# Altium footprint library Library.PcbLib: 36 footprints (part 1 of 3)
Each footprint in its own frame and in the unit in brackets; x right, y up, seen from the top. Pads: shape width x height; smd on the part's side, far side on the other; paste and mask are expansions set on the pad; w line width, h text height; cw(c..) or ccw(c..) is an arc to the next point about the centre after c.
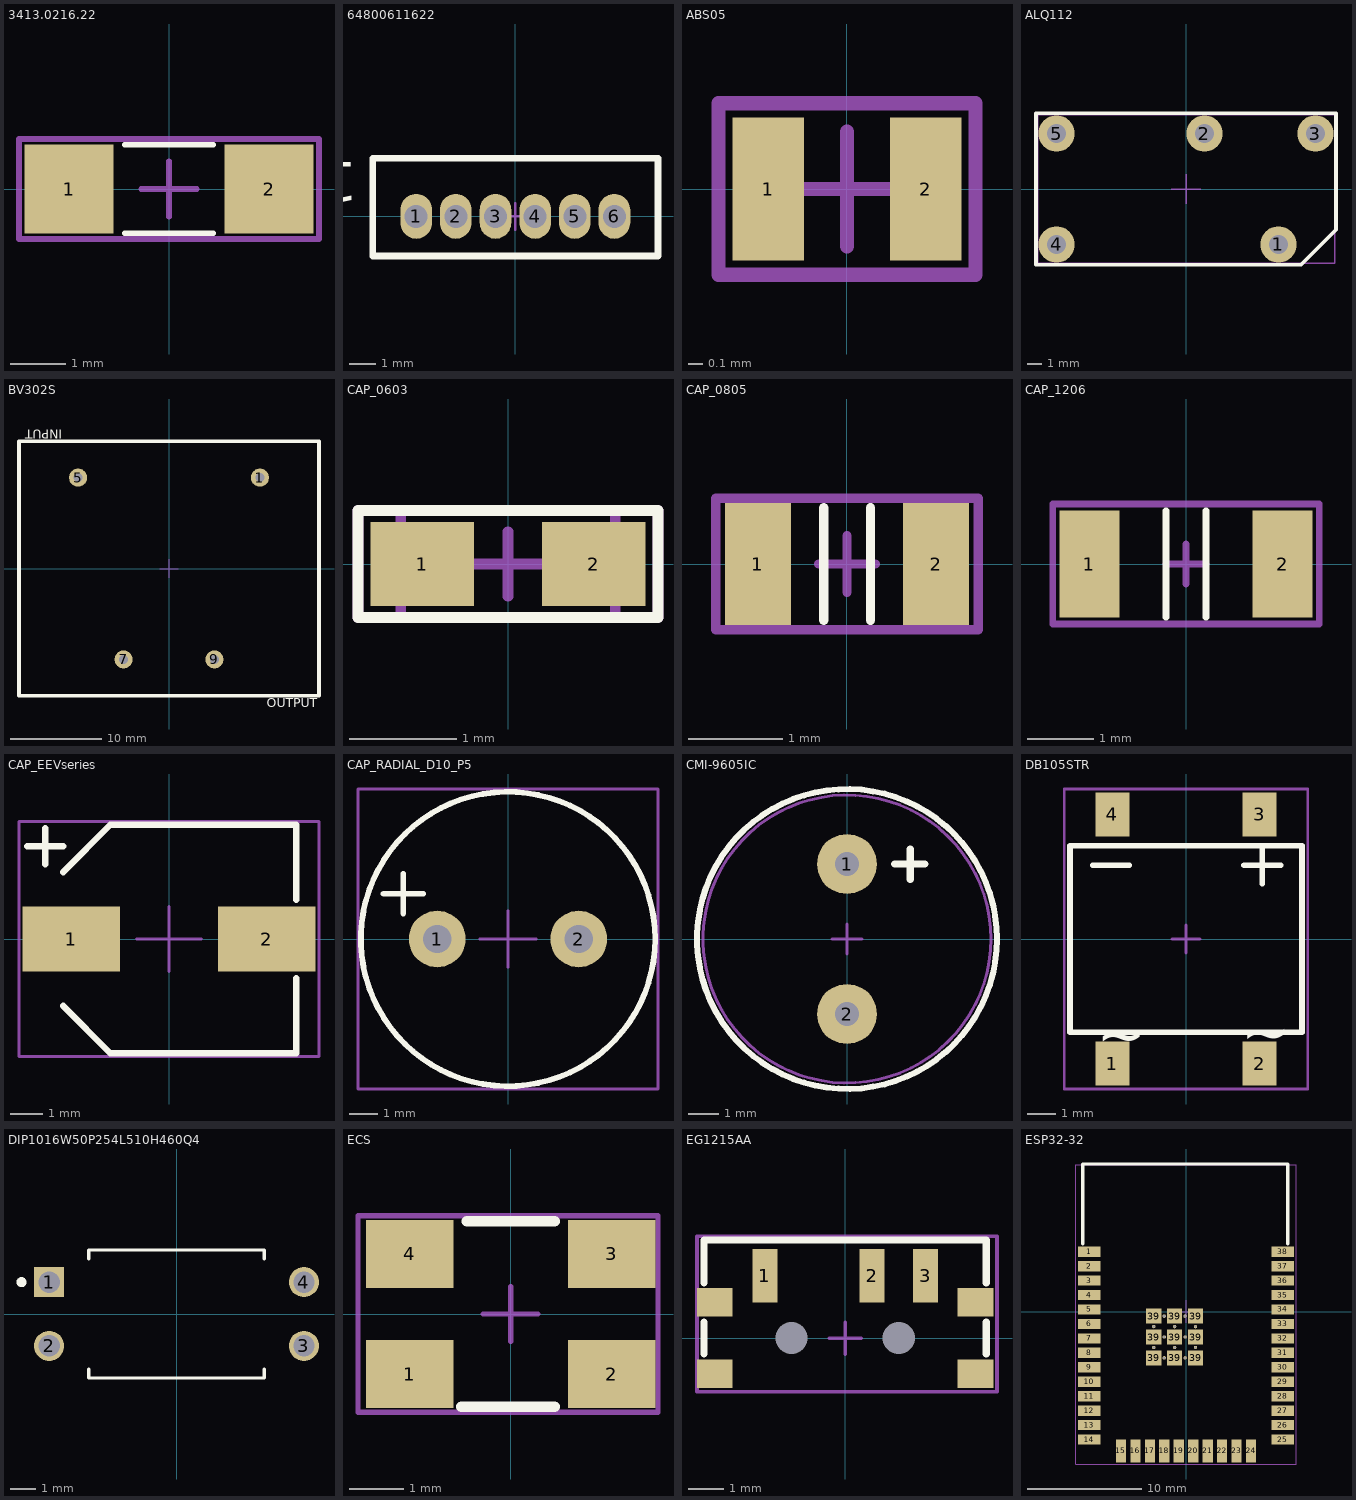
[diagram p0: the footprints below, top view; thin cyan lines are the x and y axes]

## 3413.0216.22 [mm]
pads (2):
  rect 1.6x1.6 smd mask+0.05: 1(-1.8,0) 2(1.8,0)
Top Overlay:
  lines w0.1: -0.8,-0.8 0.8,-0.8 ; -0.8,0.8 0.8,0.8
Top Component Center:
  lines w0.1: -0.5,0 0.5,0 ; 0,-0.5 0,0.5 ; -2.7,-0.9 2.7,-0.9 2.7,0.9 -1.3,0.9 -2.7,0.9 -2.7,-0.9
Top Designator:
  lines w0.1: -2.7,-0.9 2.7,-0.9 2.7,0.9 -1.3,0.9 -2.7,0.9 -2.7,-0.9
  text ".Designator" at -2,-0.467 h1
3D body "e_0100.3479_003.step": height 0.64, standoff 0, extent -1.612,-0.8 1.612,0.8

## 64800611622 [mm]
pads (6):
  oval 1.2x1.7 hole 0.87 mask+0.05: 1(-3.75,0) 2(-2.25,0) 3(-0.75,0) 4(0.75,0) 5(2.25,0) 6(3.75,0)
Top Overlay:
  lines w0.25: -5.4,-1.5 5.4,-1.5 5.4,2.2 -5.4,2.2 -5.4,-1.5
  text "1" at -5.954,2.046 h1.52
Top Component Center:
  lines w0.1: -0.5,0 0.5,0 ; 0,-0.5 0,0.5 ; -5.4,-1.5 -5.4,2.2 5.4,2.2 5.4,-1.5 -5.4,-1.5
Top Designator:
  lines w0.1: -5.4,-1.5 5.4,-1.5 5.4,2.2 -5.4,2.2 -5.4,-1.5
  text "'.Designator'" at -4.046,-0.238 h1.52
3D body "64800611622 (rev1).stp": height 4.75, standoff -2.45, extent -5.25,-1.4 5.25,2.1

## ABS05 [mm]
pads (2):
  rect 0.5x1 smd mask+0.05: 1(-0.55,0) 2(0.55,0)
Top Component Center:
  lines w0.1: -0.4,0 0.4,0 ; 0,-0.4 0,0.4 ; -0.9,-0.6 0.9,-0.6 0.9,0.6 -0.9,0.6 -0.9,-0.6
Top Designator:
  lines w0.1: -0.9,-0.6 0.9,-0.6 0.9,0.6 -0.9,0.6 -0.9,-0.6
  text "'.Designator'" at -1,-0.367 h0.7
3D body "ABS05.STEP": height 0.5, standoff 0, extent -0.8,-0.5 0.8,0.5

## ALQ112 [mm]
pads (5):
  round 2.5 hole 1.3 mask+0.05: 1(6.35,-3.81) 2(1.27,3.81) 3(8.89,3.81) 4(-8.89,-3.81) 5(-8.89,3.81)
Top Overlay:
  lines w0.25: -10.3,-5.2 -10.3,5.2 10.3,5.2 10.3,-2.8 7.9,-5.2 -10.3,-5.2
Top Component Center:
  lines w0.1: -1,0 1,0 ; 0,-1 0,1 ; -10.19,-5.09 -10.19,5.11 10.21,5.11 10.21,-5.09 -10.19,-5.09
Top Designator:
  lines w0.1: -10.19,-5.09 -10.19,5.11 10.21,5.11 10.21,-5.09 -10.19,-5.09
  text "'.Designator'" at -5.146,-0.138 h1.52
3D body: height 15.6, standoff 0.4, extent -10,-4.98 10,5.02
3D body: height 15.6, standoff 0.4, extent 8.01,-3.99 9.01,-2.99
3D body: height 0.2, standoff -4, extent 5.95,-3.96 6.75,-3.66
3D body: height 0.45, standoff -3.75, extent -9.288,3.411 -8.492,4.209
3D body: height 0.45, standoff -3.75, extent -9.288,-4.209 -8.492,-3.411
3D body: height 0.2, standoff -4, extent 8.49,3.66 9.29,3.96
3D body: height 0.2, standoff -4, extent 0.87,3.66 1.67,3.96

## BV302S [mm]
pads (4):
  round 2 hole 1 mask+0.05: 1(10,10) 5(-10,10) 7(-5,-10) 9(5,-10)
Top Overlay:
  lines w0.4: -16.5,-14 -16.5,14 16.5,14 16.5,-14 -16.5,-14
  text "OUTPUT" at 10.754,-15.246 h1
  text "INPUT" at -11.754,15.246 h1
Top Component Center:
  lines w0.1: -1,0 1,0 ; 0,-1 0,1 ; -16.5,-14 16.5,-14 16.5,14 -16.5,14 -16.5,-14
Top Designator:
  lines w0.1: -16.5,-14 -16.5,14 16.5,14 16.5,-14 -16.5,-14
  text "'.Designator'" at -7.246,-0.238 h1.52
3D body "User Library-Hahn BV EI 302 2902.step": height 21.8, standoff -4.5, extent -16.25,-13.75 16.25,13.75

## CAP_0603 [mil]
pads (2):
  rect 38x31 smd mask+1.97: 1(-31.5,0) 2(31.5,0)
Top Overlay:
  lines w3.94: -55.12,-19.68 55.12,-19.68 55.12,19.68 -55.12,19.68 -55.12,-19.68
Top 3D Body:
  lines w3.94: -39.37,-19.68 -39.37,19.68 39.37,19.68 39.37,-19.68 -39.37,-19.68
Top Component Center:
  lines w3.94: -11.81,0 11.81,0 ; 0,-11.81 0,11.81 ; -55.12,-19.68 55.12,-19.68 55.12,19.68 -55.12,19.68 -55.12,-19.68
Top Designator:
  lines w3.94: -55.12,-19.68 55.12,-19.68 55.12,19.68 -55.12,19.68 -55.12,-19.68
  text ".Designator" at -39.37,-9.19 h19.68
3D body "CAPC0603.STEP": height 31.5, standoff 0, extent -41.35,-22.21 41.36,18.29

## CAP_0805 [mm]
pads (2):
  rect 0.7x1.3 smd mask+0.05: 1(-0.95,0) 2(0.95,0)
Top Overlay:
  lines w0.1: -0.25,-0.6 -0.25,0.6 ; 0.25,-0.6 0.25,0.6
Top Component Center:
  lines w0.1: -0.3,0 0.3,0 ; 0,-0.3 0,0.3 ; -1.4,-0.7 1.4,-0.7 1.4,0.7 -1.4,0.7 -1.4,-0.7
Top Designator:
  lines w0.1: -1.4,-0.7 1.4,-0.7 1.4,0.7 -1.4,0.7 -1.4,-0.7
  text "'.Designator'" at -1.25,-0.317 h0.7
3D body "CAPC0805.STEP": height 0.9, standoff 0, extent -1.301,-0.678 1.301,0.678

## CAP_1206 [mm]
pads (2):
  rect 0.9x1.6 smd mask+0.05: 1(-1.45,0) 2(1.45,0)
Top Overlay:
  lines w0.1: -0.3,-0.8 -0.3,0.8 ; 0.3,-0.8 0.3,0.8
Top Component Center:
  lines w0.1: -0.3,0 0.3,0 ; 0,-0.3 0,0.3 ; -2,-0.9 2,-0.9 2,0.9 -2,0.9 -2,-0.9
Top Designator:
  lines w0.1: -2,-0.9 2,-0.9 2,0.9 -2,0.9 -2,-0.9
  text "'.Designator'" at -1.25,-0.317 h0.7
3D body "CAPC1206.STEP": height 1.3, standoff -0.01, extent -1.975,-0.976 1.975,0.976

## CAP_EEVseries [mm]
pads (2):
  rect 3x2 smd mask+0.05: 1(-3,0) 2(3,0)
Top Overlay:
  lines w0.2: -4.35,2.85 -3.25,2.85 ; -3.8,2.3 -3.8,3.4 ; -3.25,-2.05 -1.8,-3.5 -1.5,-3.5 3.9,-3.5 3.9,-1.2 ; -3.25,2.05 -1.8,3.5 -1.5,3.5 3.9,3.5 3.9,1.2
Top Component Center:
  lines w0.1: -1,0 1,0 ; 0,-1 0,1 ; -4.6,-3.6 -4.6,3.6 4.6,3.6 4.6,-3.6 -4.6,-3.6
Top Designator:
  lines w0.1: -4.6,-3.6 -4.6,3.6 4.6,3.6 4.6,-3.6 -4.6,-3.6
  text "'.Designator'" at -2.846,-0.638 h1.52
3D body "EEV686M035A9HAA (1).step": height 8.01, standoff 0, extent -3.8,-3.4 3.8,3.4

## CAP_RADIAL_D10_P5 [mm]
pads (2):
  round 2 hole 1 mask+0.05: 1(-2.5,0) 2(2.5,0)
Top Overlay:
  circle w0.2: c0,0 r5.2
  lines w0.2: -4.4,1.6 -3,1.6 ; -3.7,0.9 -3.7,2.3
Top Component Center:
  lines w0.1: -1,0 1,0 ; 0,-1 0,1 ; -5.3,-5.3 5.3,-5.3 5.3,5.3 -5.3,5.3 -5.3,-5.3
Top Designator:
  lines w0.1: -5.3,-5.3 -5.3,5.3 5.3,5.3 5.3,-5.3 -5.3,-5.3
  text "'.Designator'" at -3.446,-0.938 h1.52
3D body "ESH477M050AH4AA (2).step": height 22.2, standoff -19.8, extent -5.25,-5.25 5.25,5.25

## CMI-9605IC [mm]
pads (2):
  round 2 hole 0.8 mask+0.05: 1(0,2.5) 2(0,-2.5)
Top Overlay:
  circle w0.2: c0,0 r5
  lines w0.25: 1.6,2.5 2.6,2.5 ; 2.1,2 2.1,3
Top Component Center:
  circle w0.1: c0,0 r4.8
  lines w0.1: -0.5,0 0.5,0 ; 0,-0.5 0,0.5
Top Designator:
  circle w0.1: c0,0 r4.8
  text ".Designator" at -2.246,-0.438 h1.52
3D body: height 1.65, standoff -3.85, extent -0.3,-2.8 0.297,-2.201
3D body: height 0.15, standoff -5.35, extent -0.297,2.201 0.3,2.8
3D body: height 5.2, standoff 5.15, extent -2,1.8 2,5.8
3D body: height 5.1, standoff 0.1, extent -4.8,-4.797 4.8,4.797
3D body: height 5.2, standoff 5.15, extent -4.3,-4.297 4.3,4.297

## DB105STR [mm]
pads (4):
  rect 1.2x1.55 smd mask+0.05: 1(-2.605,-4.4) 2(2.605,-4.4) 3(2.605,4.4) 4(-2.605,4.4)
Top Overlay:
  lines w0.2: -3.3,2.6 -2,2.6 ; 2.05,2.6 3.35,2.6 ; 2.7,1.95 2.7,3.25 ; -4.1,-3.3 -4.1,3.3 4.1,3.3 4.1,-3.3 -4.1,-3.3
  text "~" at 1.954,-4.016 h1.52
  text "~" at -3.146,-4.116 h1.52
Top Component Center:
  lines w0.1: -0.5,0 0.5,0 ; 0,-0.5 0,0.5 ; -4.3,-5.3 -4.3,5.3 4.3,5.3 4.3,-5.3 -4.3,-5.3
Top Designator:
  lines w0.1: -4.3,-5.3 -4.3,5.3 4.3,5.3 4.3,-5.3 -4.3,-5.3
  text ".Designator" at -3,-0.067 h1
3D body "User Library-DB107S  DB-S (1).step": height 2.66, standoff 0, extent -4.16,-5.2 4.16,5.2

## DIP1016W50P254L510H460Q4 [mm]
pads (4):
  rect 1.2x1.2 hole 0.85: 1(-5.08,1.27)
  round 1.2 hole 0.85: 2(-5.08,-1.27) 3(5.08,-1.27) 4(5.08,1.27)
Top Overlay:
  circle w0.2: c-6.18,1.27 r0.1
  lines w0.127: -3.5,-2.2 -3.5,-2.55 3.5,-2.55 3.5,-2.2 ; -3.5,2.2 -3.5,2.55 3.5,2.55 3.5,2.2

## ECS [mm]
pads (4):
  rect 1.6x1.25 smd mask+0.05: 1(-1.85,-1.1) 2(1.85,-1.1) 3(1.85,1.1) 4(-1.85,1.1)
Top Overlay:
  lines w0.2: -0.9,-1.7 0.8,-1.7 ; -0.8,1.7 0.8,1.7
Top Component Center:
  lines w0.1: -0.5,0 0.5,0 ; 0,-0.5 0,0.5 ; -2.8,-1.8 2.7,-1.8 2.7,1.8 -2.8,1.8 -2.8,-1.8
Top Designator:
  lines w0.1: -2.8,-1.8 2.7,-1.8 2.7,1.8 -2.8,1.8 -2.8,-1.8
  text "'.Designator'" at -2.246,-0.638 h1.52
3D body "ECS-160-20-30B-TR.STEP": height 0.85, standoff 0, extent -2.5,-1.6 2.5,1.6

## EG1215AA [mm]
pads (9):
  rect 0.7x1.5 smd mask+0.05: 1(-2.25,1.75) 2(0.75,1.75) 3(2.25,1.75)
  rect 1x0.8 smd mask+0.05: ""(-3.65,-1) ""(-3.65,1) ""(3.65,-1) ""(3.65,1)
  round 0 hole 0.9 mask+0.05: ""(-1.5,0) ""(1.5,0)
Top Overlay:
  lines w0.2: -3.95,-0.45 -3.95,0.45 ; -3.95,1.55 -3.95,2.75 3.95,2.75 3.95,1.55 ; 3.95,-0.45 3.95,0.45
Top Component Center:
  lines w0.1: -0.45,0 0.45,0 ; 0,-0.45 0,0.45 ; -4.15,-1.5 -4.15,2.85 4.25,2.85 4.25,-1.5 -4.15,-1.5
Top Designator:
  lines w0.1: -4.15,-1.5 -4.15,2.85 4.25,2.85 4.25,-1.5 -4.15,-1.5
  text ".Designator" at -2.746,0.112 h1.52
3D body "EG1215AA--3DModel-STEP-56544 (1).STEP": height 1.38, standoff -0.32, extent -3.85,-2.7 3.85,2.2

## ESP32-32 [mm]
pads (59):
  rect 2x0.9 smd mask+0.05: 1(-8.5,5.26) 2(-8.5,3.99) 3(-8.5,2.72) 4(-8.5,1.45) 5(-8.5,0.18) 6(-8.5,-1.09) 7(-8.5,-2.36) 8(-8.5,-3.63) 9(-8.5,-4.9) 10(-8.5,-6.17) 11(-8.5,-7.44) 12(-8.5,-8.71) 13(-8.5,-9.98) 14(-8.5,-11.25) 25(8.5,-11.25) 26(8.5,-9.98) 27(8.5,-8.71) 28(8.5,-7.44) 29(8.5,-6.17) 30(8.5,-4.9) 31(8.5,-3.63) 32(8.5,-2.36) 33(8.5,-1.09) 34(8.5,0.18) 35(8.5,1.45) 36(8.5,2.72) 37(8.5,3.99) 38(8.5,5.26)
  rect 0.9x2 smd mask+0.05: 15(-5.715,-12.25) 16(-4.445,-12.25) 17(-3.175,-12.25) 18(-1.905,-12.25) 19(-0.635,-12.25) 20(0.635,-12.25) 21(1.905,-12.25) 22(3.175,-12.25) 23(4.445,-12.25) 24(5.715,-12.25)
  rect 1.33x1.33 smd mask+0.05: 39(-2.835,-4.075) 39(-2.835,-2.24) 39(-2.835,-0.405) 39(-1,-4.075) 39(-1,-2.24) 39(-1,-0.405) 39(0.835,-4.075) 39(0.835,-2.24) 39(0.835,-0.405)
  round 0.3 hole 0.2 mask+0.05: 39(-2.835,-3.157) 39(-2.835,-1.322) 39(-1.917,-4.075) 39(-1.917,-2.24) 39(-1.917,-0.405) 39(-1,-3.157) 39(-1,-1.322) 39(-0.082,-4.075) 39(-0.082,-2.24) 39(-0.082,-0.405) 39(0.835,-3.157) 39(0.835,-1.322)
Top Overlay:
  lines w0.3: -9.071,5.968 -9.071,12.968 8.929,12.968 8.929,5.968
Top Component Center:
  lines w0.1: -1,0 1,0 ; 0,-1 0,1 ; -9.7,-13.4 9.7,-13.4 9.7,12.9 -9.7,12.9 -9.7,-13.4
Top Designator:
  lines w0.1: -9.7,-13.4 9.7,-13.4 9.7,12.9 -9.7,12.9 -9.7,-13.4
  text ".Designator" at -3.846,0.762 h1.52
3D body "ESP-32 .step": height 2.61, standoff -0.1, extent -8.974,-12.6 8.926,12.8